# Altium schematic symbol library Header-2X3.Schlib: 1 symbol
Pins are listed as number, name and electrical type; pins without a type are passive.

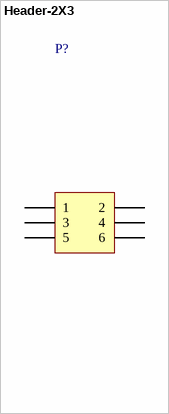
[diagram p0: symbol Header-2X3]

## Header-2X3
designator P?
Header-2X3
pins: 1, 2, 3, 4, 5, 6